# Altium footprint library 165mm-v1.PcbLib: 63 footprints (part 2 of 4)
Each footprint in its own frame and in the unit in brackets; x right, y up, seen from the top. Pads: shape width x height; smd on the part's side, far side on the other; paste and mask are expansions set on the pad; w line width, h text height; cw(c..) or ccw(c..) is an arc to the next point about the centre after c.
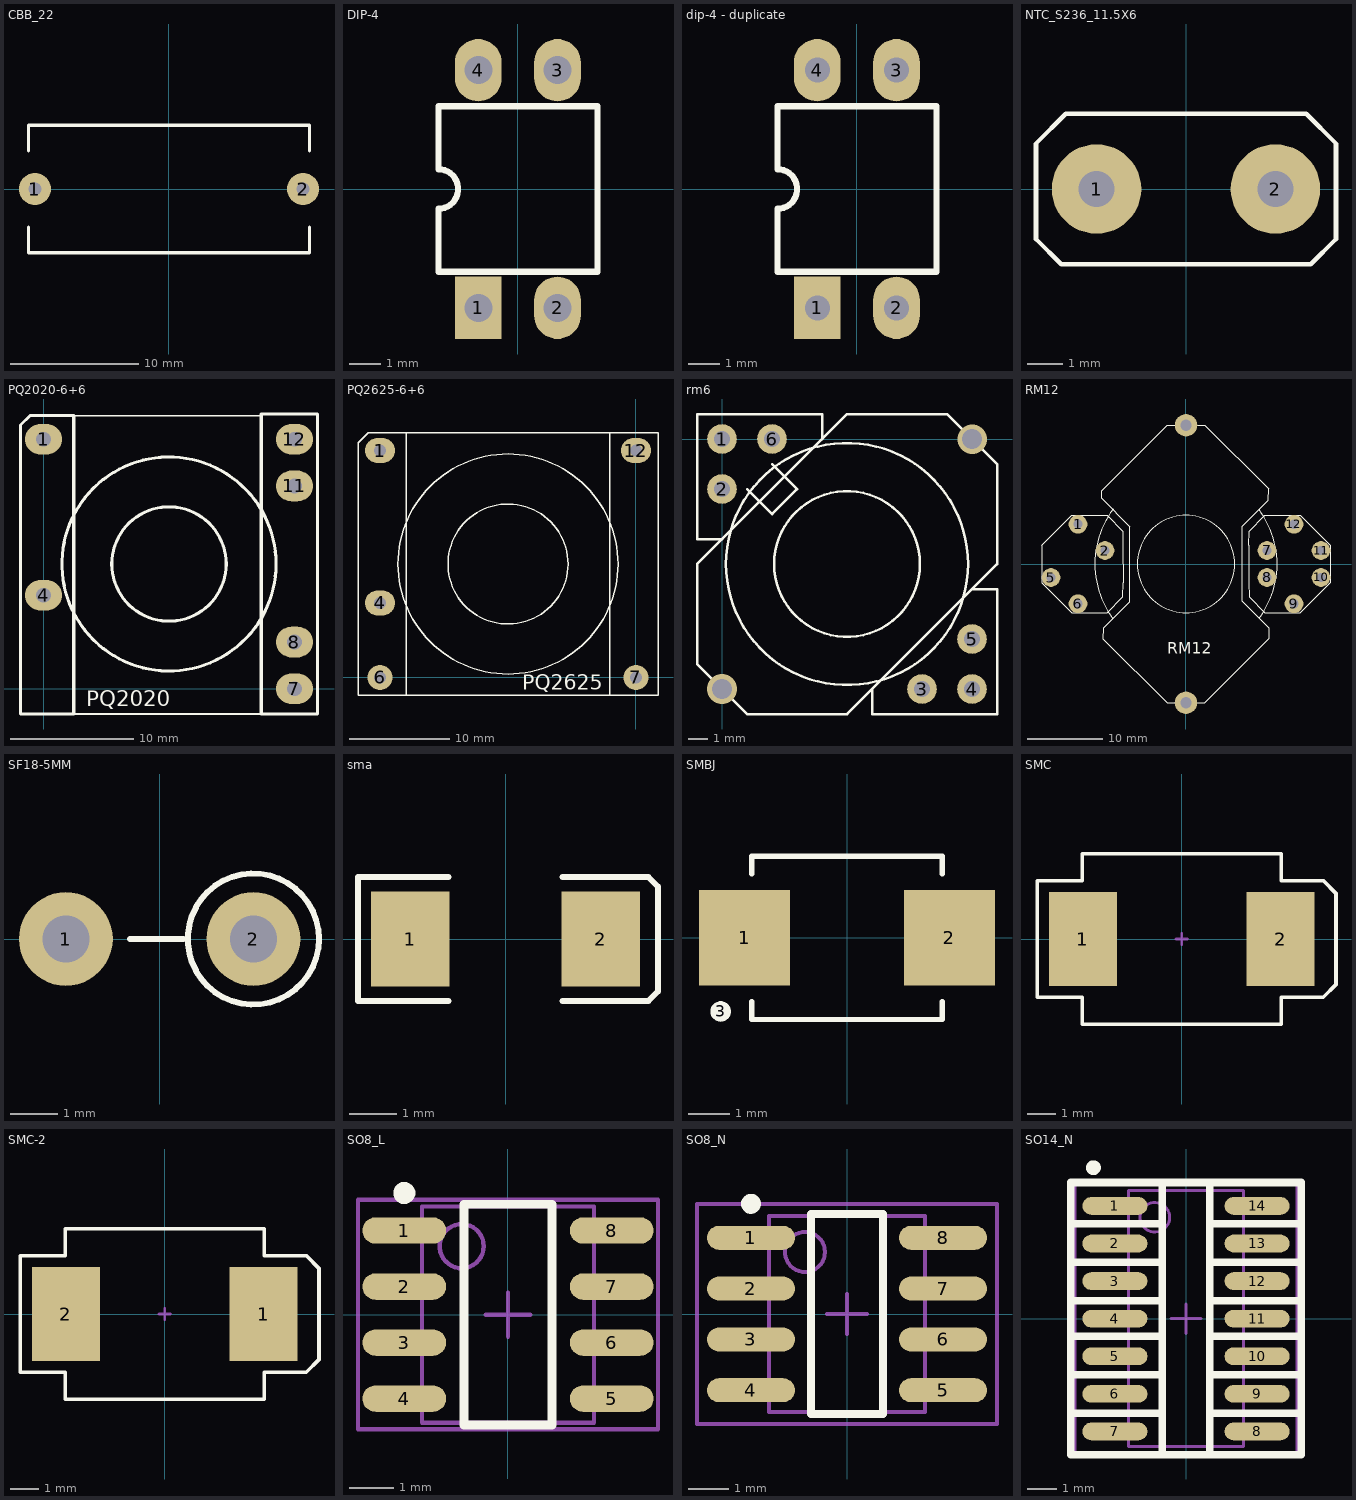
[diagram p1: the footprints below, top view; thin cyan lines are the x and y axes]

## CBB_22 [mm]
height 9.6
pads (2):
  round 2.5 hole 1: 1(-10.5,0) 2(10.5,0)
Top Overlay:
  lines w0.254: -11,-3 -11,-5 11,-5 11,-3 ; -11,3 -11,5 11,5 11,3

## DIP-4 [mm] "DIP; 4 Leads; Row Spacing 7.62 mm; Pitch 2.54 mm"
height 5.6
pads (4):
  rect 1.5x2 hole 0.9: 1(-1.27,-3.81)
  oval 1.5x2 hole 0.9: 2(1.27,-3.81) 3(1.27,3.81) 4(-1.27,3.81)
Top Overlay:
  lines w0.2: -2.55,-2.65 2.55,-2.65 2.55,2.65 -2.55,2.65 -2.55,0.635 cw(c-2.55,0) -2.55,-0.635 -2.55,-2.65

## dip-4 - duplicate [mm]
pads (4):
  rect 1.5x2 hole 0.8: 1(-1.27,-3.81)
  oval 1.5x2 hole 0.8: 2(1.27,-3.81) 3(1.27,3.81) 4(-1.27,3.81)
Top Overlay:
  lines w0.2: -2.55,-2.65 -2.55,-0.635 ccw(c-2.55,0) -2.55,0.635 -2.55,2.65 2.55,2.65 2.55,-2.65 -2.55,-2.65

## NTC_S236_11.5X6 [mm]
height 25
pads (2):
  round 2.5 hole 1: 1(-2.5,0) 2(2.5,0)
Top Overlay:
  lines w0.127: -4.191,-1.397 -3.488,-2.1 3.488,-2.1 4.191,-1.397 4.191,1.27 3.361,2.1 -3.361,2.1 -4.191,1.27 -4.191,-1.397

## PQ2020-6+6 [mm]
height 9.6
pads (6):
  oval 3x2.5 hole 1.2: 1(0,20.28) 4(0,7.6) 7(20.4,0) 8(20.4,3.8) 11(20.4,16.48) 12(20.4,20.28)
Top Overlay:
  circle w0.254: c10.2,10.14 r8.7
  circle w0.254: c10.2,10.14 r4.65
  lines w0.127: 2.453,-2.052 17.693,-2.052 ; 2.453,22.203 17.564,22.203
  lines w0.254: -1.865,-2.052 2.453,-2.052 2.453,22.203 -1.103,22.203 -1.865,21.441 -1.865,-2.052 ; 17.693,-2.052 17.693,22.332 22.265,22.332 22.265,-2.052 17.693,-2.052
  text "PQ2020" at 3.469,-1.417 h1.27

## PQ2625-6+6 [mm] "pq"
height 25
pads (5):
  oval 3x2.5 hole 1.2: 1(-25.6,22.7) 4(-25.6,7.46) 12(0,22.7)
  round 2.5 hole 1.2: 6(-25.6,0) 7(0,0)
Top Overlay:
  circle w0.127: c-12.8,11.35 r11
  circle w0.127: c-12.8,11.35 r6
  lines w0.127: -22.96,-1.8 -2.64,-1.8 ; -22.96,-1.8 -27.8,-1.8 -27.8,23.5 -26.8,24.5 -22.96,24.5 ; -22.96,-1.8 -22.96,24.5 ; -22.96,24.5 -2.64,24.5 ; -2.64,-1.8 -2.64,24.5 ; -2.64,-1.8 2.2,-1.8 2.2,24.5 -2.64,24.5
  text "PQ2625" at -11.392,-1.22 h1.5

## rm6 [mm]
pads (6):
  round 1.5 hole 0.8: 1(0,0) 2(0,-2.54) 3(10.16,-12.7) 4(12.7,-12.7) 5(12.7,-10.16) 6(2.54,0)
via 0,-12.7 diameter 1.5 hole 1
via 12.703,-0.003 diameter 1.5 hole 1
Top Overlay:
  circle w0.127: c6.35,-6.35 r6.15
  circle w0.127: c6.35,-6.35 r3.7
  lines w0.127: 0,-5.08 -1.27,-5.08 -1.27,-3.81 -1.27,1.27 5.08,1.27 5.08,0 ; 1.27,-2.54 2.54,-3.81 3.81,-2.54 2.54,-1.27 ; 7.62,-12.7 7.62,-13.97 13.97,-13.97 13.97,-7.62 12.7,-7.62 ; -1.27,-11.43 -1.27,-6.35 6.35,1.27 11.43,1.27 13.97,-1.27 13.97,-6.35 6.35,-13.97 1.27,-13.97 -1.27,-11.43

## RM12 [mm]
height 25
pads (12):
  round 2.5 hole 1.2: 1(-14.4,5.3) 2(-10.8,1.8) 5(-18,-1.8) 6(-14.4,-5.3) 7(10.8,1.8) 8(10.8,-1.8) 9(14.4,-5.3) 10(18,-1.8) 11(18,1.8) 12(14.4,5.3)
  round 3 hole 1.5: ""(0,-18.5) ""(0,18.5)
Top Overlay:
  circle w0.127: c0,0 r6.5
  lines w0.127: -9.734,-7.271 cw(c0,0) -9.72,7.29 ; -1.5,-18.5 -2.5,-18.5 -11,-10 -11,-8.5 -7.5,-5 -7.5,5 -11.25,8.75 -11.25,9.75 -2.5,18.5 -1.5,18.5 ; 1.5,-18.5 2.5,-18.5 11,-10 11,-8.5 7.5,-5 7.5,5 11,8.5 11,10 2.5,18.5 1.5,18.5 ; 9.76,-7.237 ccw(c0,0) 9.781,7.207 ; -19.25,-2.5 -19.25,2.5 -15.25,6.5 -15,6.5 -10.5,6.5 -8.4,4.4 -8.4,2.5 -8.4,-2.5 -8.4,-4.4 -10.5,-6.5 -15,-6.5 -15.25,-6.5 -19.25,-2.5 ; 8.4,-4.4 8.4,-2.5 8.4,2.5 8.4,4.4 10.5,6.5 15,6.5 15.25,6.5 19.25,2.5 19.25,-2.5 15.25,-6.5 15,-6.5 10.5,-6.5 8.4,-4.4
  text "RM12" at -2.5,-12 h1.5
  text "." at -12.5,7.5 h1.27

## SF18-5MM [mm]
pads (2):
  round 2 hole 1: 1(-2,0) 2(2,0)
Top Overlay:
  circle w0.127: c2,0 r1.4
  lines w0.127: -0.635,0 0.508,0

## sma [mm]
height 9.6
pads (2):
  rect 1.65x2 smd: 1(-2,0) 2(2,0)
Top Overlay:
  lines w0.127: -1.2,-1.3 -3.1,-1.3 -3.1,1.3 -1.2,1.3 ; 1.2,-1.3 3,-1.3 3.2,-1.1 3.2,1.1 3,1.3 1.2,1.3

## SMBJ [mm]
height 2.45
pads (3):
  rect 2.2x2.3 smd: 1(-2.47,0) 2(2.47,0)
  round 0.5 on Top Overlay: 3(-3.048,-1.778)
Top Overlay:
  lines w0.127: -2.3,-1.538 -2.3,-1.97 2.3,-1.97 2.3,-1.538 ; -2.3,1.538 -2.3,1.97 2.3,1.97 2.3,1.538

## SMC [mm] "DO-214-AB/SMC; 2 C-Bend Leads; Body 7.9 x 5.9 mm, inc. leads (LxW)"
height 2.65
pads (2):
  rect 2.4x3.3 smd: 1(-3.475,0) 2(3.475,0)
Top Overlay:
  lines w0.127: 4.975,2.05 3.5,2.05 3.5,3 -3.5,3 -3.5,2.05 -5.075,2.05 -5.075,-2.05 -3.5,-2.05 -3.5,-3 3.5,-3 3.5,-2.05 4.975,-2.05 5.425,-1.6 5.425,1.6 4.975,2.055
Mechanical 1:
  lines w0.1: -0.2,0 0.2,0 ; 0,-0.2 0,0.2

## SMC-2 [mm]
pads (2):
  rect 2.4x3.3 smd: 1(3.475,0) 2(-3.475,0)
Top Overlay:
  lines w0.127: 4.975,2.05 3.5,2.05 3.5,3 -3.5,3 -3.5,2.05 -5.075,2.05 -5.075,-2.05 -3.5,-2.05 -3.5,-3 3.5,-3 3.5,-2.05 4.975,-2.05 5.425,-1.6 5.425,1.6 4.975,2.055
Mechanical 1:
  lines w0.1: -0.2,0 0.2,0 ; 0,-0.2 0,0.2

## SO8_L [mm] "SOIC, 8-Leads, Body 4.9x3.9mm, Pitch 1.27mm, IPC High Density"
height 1.75
pads (8):
  oval 1.9x0.6 smd: 1(-2.35,1.905) 2(-2.35,0.635) 3(-2.35,-0.635) 4(-2.35,-1.905) 5(2.35,-1.905) 6(2.35,-0.635) 7(2.35,0.635) 8(2.35,1.905)
Top Overlay:
  circle w0.25: c-2.35,2.755 r0.125
  lines w0.2: -1,-2.5 1,-2.5 1,2.5 -1,2.5 -1,-2.5
Mechanical 13:
  circle w0.1: c-1.05,1.55 r0.5
  lines w0.1: -1.95,-2.45 1.95,-2.45 1.95,2.45 -1.95,2.45 -1.95,-2.45
Mechanical 15:
  lines w0.1: -0.5,0 0.5,0 ; 0,-0.5 0,0.5 ; -3.4,-2.6 3.4,-2.6 3.4,2.6 -3.4,2.6 -3.4,-2.6
3D body: height 1.75, standoff 0, extent -1.95,-2.45 1.95,2.45

## SO8_N [mm] "SOIC, 8-Leads, Body 4.9x3.9mm, Pitch 1.27mm, IPC Medium Density"
height 1.75
pads (8):
  oval 2.2x0.6 smd: 1(-2.4,1.905) 2(-2.4,0.635) 3(-2.4,-0.635) 4(-2.4,-1.905) 5(2.4,-1.905) 6(2.4,-0.635) 7(2.4,0.635) 8(2.4,1.905)
Top Overlay:
  circle w0.25: c-2.4,2.755 r0.125
  lines w0.2: -0.9,-2.5 -0.9,2.5 0.9,2.5 0.9,-2.5 -0.9,-2.5
Mechanical 13:
  circle w0.1: c-1.05,1.55 r0.5
  lines w0.1: -1.95,-2.45 -1.95,2.45 1.95,2.45 1.95,-2.45 -1.95,-2.45
Mechanical 15:
  lines w0.1: -0.5,0 0.5,0 ; 0,-0.5 0,0.5 ; -3.75,-2.75 -3.75,2.75 3.75,2.75 3.75,-2.75 -3.75,-2.75
3D body: height 1.75, standoff 0, extent -1.95,-2.45 1.95,2.45

## SO14_N [mm] "SOIC, 14-Leads, Body 8.7x3.9mm, Pitch 1.27mm, IPC Medium Density"
height 1.75
pads (14):
  oval 2.2x0.6 smd: 1(-2.4,3.81) 2(-2.4,2.54) 3(-2.4,1.27) 4(-2.4,0) 5(-2.4,-1.27) 6(-2.4,-2.54) 7(-2.4,-3.81) 8(2.4,-3.81) 9(2.4,-2.54) 10(2.4,-1.27) 11(2.4,0) 12(2.4,1.27) 13(2.4,2.54) 14(2.4,3.81)
Top Overlay:
  circle w0.25: c-3.125,5.1 r0.125
  lines w0.254: -3.9,-3.2 -0.8,-3.2 ; -3.9,-1.9 -0.8,-1.9 ; -3.9,-0.6 -0.8,-0.6 ; -3.9,0.6 -0.8,0.6 ; -3.9,1.9 -0.8,1.9 ; -3.9,3.2 -0.9,3.2 ; -0.8,-4.6 -0.8,4.6 ; 0.8,-4.6 0.8,4.6 ; 0.8,-3.2 3.9,-3.2 ; 0.8,-1.9 3.9,-1.9 ; 0.8,-0.6 3.8,-0.6 ; 0.8,0.6 3.8,0.6 ; 0.8,1.9 3.9,1.9 ; 0.8,3.2 3.9,3.2 ; -3.9,-4.6 3.9,-4.6 3.9,4.6 -3.9,4.6 -3.9,-4.6
Mechanical 13:
  circle w0.1: c-1.05,3.425 r0.5
  lines w0.1: -1.95,-4.325 1.95,-4.325 1.95,4.325 -1.95,4.325 -1.95,-4.325
Mechanical 15:
  lines w0.1: -0.5,0 0.5,0 ; 0,-0.5 0,0.5 ; -3.75,-4.65 3.75,-4.65 3.75,4.65 -3.75,4.65 -3.75,-4.65
3D body: height 1.75, standoff 0, extent -1.95,-4.325 1.95,4.325